# Altium footprint library 刘杨_封装库.PcbLib: 8 footprints
Each footprint in its own frame and in the unit in brackets; x right, y up, seen from the top. Pads: shape width x height; smd on the part's side, far side on the other; paste and mask are expansions set on the pad; w line width, h text height; cw(c..) or ccw(c..) is an arc to the next point about the centre after c.
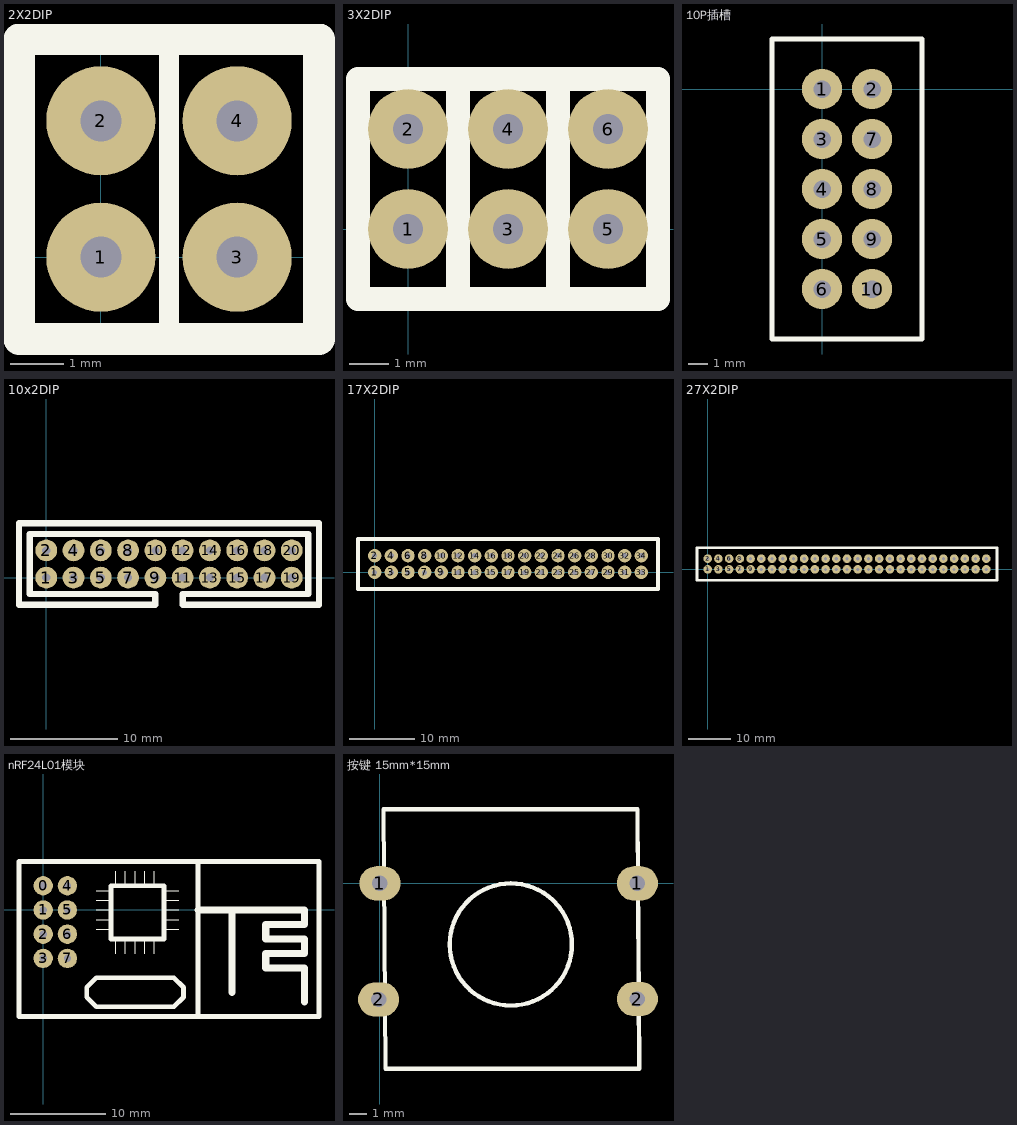
[diagram p0: the footprints below, top view; thin cyan lines are the x and y axes]

## 2X2DIP [mil]
pads (4):
  round 80 hole 30: 1(0,0) 2(0,100) 3(100,0) 4(100,100)
Top Overlay:
  lines w15: 50,-60 50,160
  lines w23.62: 50,-60 160,-60 160,160 50,160 ; 60,-60 -60,-60 -60,160 60,160

## 3X2DIP [mil]
pads (6):
  round 80 hole 30: 1(0,0) 2(0,100) 3(100,0) 4(100,100) 5(200,0) 6(200,100)
Top Overlay:
  lines w23.62: 50,-70 50,150 -50,150 ; 150,-60 150,150 ; -50,150 250,150 250,-70 -50,-70 -50,150

## 10P插槽 [mil]
pads (10):
  round 80 hole 35: 1(0,0) 2(100,0) 3(0,-100) 4(0,-200) 5(0,-300) 6(0,-400) 7(100,-100) 8(100,-200) 9(100,-300) 10(100,-400)
Top Overlay:
  lines w10: -100,-500 -100,80 -100,100 200,100 200,-500 -100,-500

## 10x2DIP [mil]
pads (20):
  round 80 hole 30: 1(0,0) 2(0,100) 3(100,0) 4(100,100) 5(200,0) 6(200,100) 7(300,0) 8(300,100) 9(400,0) 10(400,100) 11(500,0) 12(500,100) 13(600,0) 14(600,100) 15(700,0) 16(700,100) 17(800,0) 18(800,100) 19(900,0) 20(900,100)
Top Overlay:
  lines w23.62: -100,-100 -100,200 1000,200 1000,-100 500,-100 500,-60 960,-60 960,160 -40,160 -60,160 -60,-40 -60,-60 400,-60 400,-100 -60,-100 -100,-100

## 17X2DIP [mil]
pads (34):
  round 80 hole 30: 1(0,0) 2(0,100) 3(100,0) 4(100,100) 5(200,0) 6(200,100) 7(300,0) 8(300,100) 9(400,0) 10(400,100) 11(500,0) 12(500,100) 13(600,0) 14(600,100) 15(700,0) 16(700,100) 17(800,0) 18(800,100) 19(900,0) 20(900,100) 21(1000,0) 22(1000,100) 23(1100,0) 24(1100,100) 25(1200,0) 26(1200,100) 27(1300,0) 28(1300,100) 29(1400,0) 30(1400,100) 31(1500,0) 32(1500,100) 33(1600,0) 34(1600,100)
Top Overlay:
  lines w23.62: -100,-100 1680,-100 1700,-100 1700,200 -100,200 -100,-100

## 27X2DIP [mil]
pads (54):
  round 80 hole 30: 1(0,0) 2(0,100) 3(100,0) 4(100,100) 5(200,0) 6(200,100) 7(300,0) 8(300,100) 9(400,0) 10(400,100) 11(500,0) 12(500,100) 13(600,0) 14(600,100) 15(700,0) 16(700,100) 17(800,0) 18(800,100) 19(900,0) 20(900,100) 21(1000,0) 22(1000,100) 23(1100,0) 24(1100,100) 25(1200,0) 26(1200,100) 27(1300,0) 28(1300,100) 29(1400,0) 30(1400,100) 31(1500,0) 32(1500,100) 33(1600,0) 34(1600,100) 35(1700,0) 36(1700,100) 37(1800,0) 38(1800,100) 39(1900,0) 40(1900,100) 41(2000,0) 42(2000,100) 43(2100,0) 44(2100,100) 45(2200,0) 46(2200,100) 47(2300,0) 48(2300,100) 49(2400,0) 50(2400,100) 51(2500,0) 52(2500,100) 53(2600,0) 54(2600,100)
Top Overlay:
  lines w23.62: -100,-100 2700,-100 2700,200 -100,200 -100,-100

## nRF24L01模块 [mil]
pads (8):
  round 80 hole 30: 0(0,100) 1(0,0) 2(0,-100) 3(0,-200) 4(100,100) 5(100,0) 6(100,-100) 7(100,-200)
Top Overlay:
  lines w5: 220,-80 280,-80 ; 220,-40 280,-40 ; 220,0 240,0 280,0 ; 220,40 280,40 ; 220,80 280,80 ; 300,-180 300,-120 ; 300,100 300,160 ; 340,-180 340,-120 ; 340,100 340,160 ; 380,-180 380,-120 ; 380,100 380,160 ; 420,-180 420,-120 ; 420,100 420,160 ; 460,-180 460,-120 ; 460,100 460,140 460,160 ; 500,-80 560,-80 ; 500,-40 560,-40 ; 500,0 560,0 ; 500,40 560,40 ; 500,80 560,80
  lines w20: 640,-440 640,200 ; -100,-440 1140,-440 1140,200 1100,200 -100,200 -100,-440 ; 180,-360 180,-320 220,-280 540,-280 580,-320 580,-360 540,-400 220,-400 180,-360 ; 280,-120 500,-120 500,100 280,100 280,-120
  lines w30: 640,0 1040,0 1080,0 1080,-60 920,-60 920,-120 1080,-120 1080,-160 1080,-180 920,-180 920,-240 1080,-240 1080,-380 ; 780,-340 780,-20

## 按键 15mm*15mm [mm]
pads (4):
  oval 2.4x2 hole 0.9: 1(0,0) 1(14.986,0) 2(-0.076,-6.759) 2(14.986,-6.731)
Top Overlay:
  circle w0.254: c7.62,-3.556 r3.556
  lines w0.254: 0.207,4.318 14.99,4.318 15.103,-10.795 0.321,-10.795 0.207,4.318